# Altium footprint library PCB - LEADLESS - LFCSP - AD LFCSP-10 3x3MM CP-10-9.PcbLib: 1 footprints
Each footprint in its own frame and in the unit in brackets; x right, y up, seen from the top. Pads: shape width x height; smd on the part's side, far side on the other; paste and mask are expansions set on the pad; w line width, h text height; cw(c..) or ccw(c..) is an arc to the next point about the centre after c.
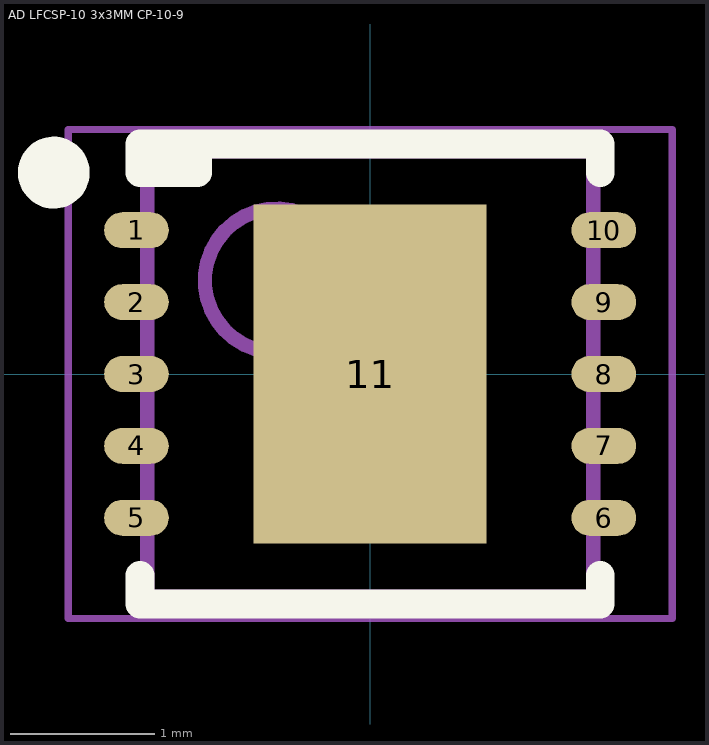
[diagram p0: the footprint, top view; thin cyan lines are the x and y axes]

## AD LFCSP-10 3x3MM CP-10-9 [mm] "DFN, 10-Leads, Body 3.00x3.00mm, Pitch 0.50mm, Thermal Pad 1.62x2.36mm"
height 0.8
pads (11):
  oval 0.45x0.25 smd: 1(-1.625,1) 2(-1.625,0.5) 3(-1.625,0) 4(-1.625,-0.5) 5(-1.625,-1) 6(1.625,-1) 7(1.625,-0.5) 8(1.625,0) 9(1.625,0.5) 10(1.625,1)
  rect 1.62x2.36 smd: 11(0,0)
Top Overlay:
  circle w0.25: c-2.2,1.4 r0.125
  rectangle: -1.6,1.4 -1.2,1.6
  lines w0.2: -1.6,-1.4 -1.6,-1.6 1.6,-1.6 1.6,-1.4 ; -1.2,1.6 -1.2,1.4 -1.6,1.4 -1.6,1.6 1.6,1.6 1.6,1.4
Mechanical 13:
  circle w0.1: c-0.65,0.65 r0.5
  lines w0.1: -1.55,-1.55 1.55,-1.55 1.55,1.55 -1.55,1.55 -1.55,-1.55
Mechanical 15:
  lines w0.05: -2.1,-1.7 2.1,-1.7 2.1,1.7 -2.1,1.7 -2.1,-1.7
  lines w0.1: -0.5,0 0.5,0 ; 0,-0.5 0,0.5
3D body "AD LFCSP-10 3x3MM CP-10-9.step": height 0.8, standoff 0, extent -1.57,-1.55 1.57,1.55